# EAGLE library part BOTTOM-PADS-70 (library T2M_4_0)
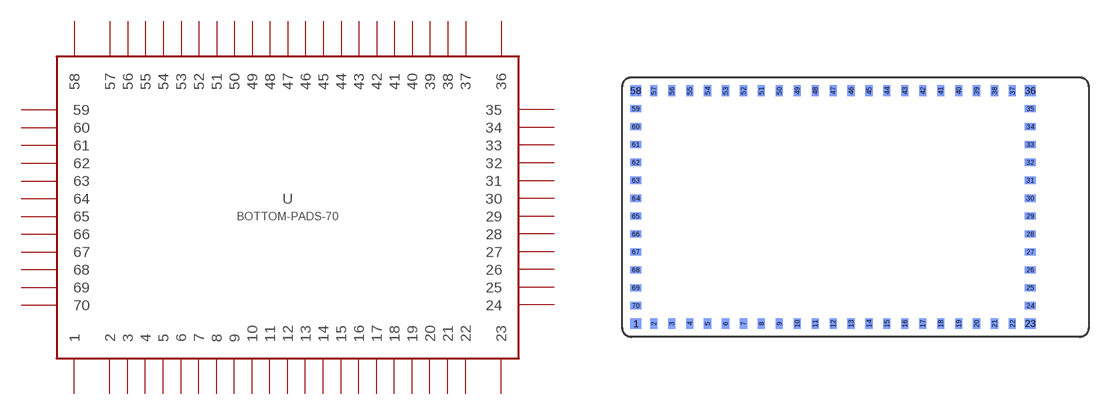
[diagram p3: symbol with the pads of BOTTOM-PADS-70; footprint BOTTOM-PADS-70]

Designator prefix -

## BOTTOM-PADS-70  [BOTTOM-PADS-70]
1  1
2  2
3  3
4  4
5  5
6  6
7  7
8  8
9  9
10  10
11  11
12  12
13  13
14  14
15  15
16  16
17  17
18  18
19  19
20  20
21  21
22  22
23  23
24  24
25  25
26  26
27  27
28  28
29  29
30  30
31  31
32  32
33  33
34  34
35  35
36  36
37  37
38  38
39  39
40  40
41  41
42  42
43  43
44  44
45  45
46  46
47  47
48  48
49  49
50  50
51  51
52  52
53  53
54  54
55  55
56  56
57  57
58  58
59  59
60  60
61  61
62  62
63  63
64  64
65  65
66  66
67  67
68  68
69  69
70  70

## Footprint BOTTOM-PADS-70 (pad centres in mm)
smd 0.6 x 0.6 bottom: 1 0.75,0.75; 23 22.75,0.75; 36 22.75,13.75; 58 0.75,13.75
smd 0.4 x 0.6 bottom: 2 1.75,0.75; 3 2.75,0.75; 4 3.75,0.75; 5 4.75,0.75; 6 5.75,0.75; 7 6.75,0.75; 8 7.75,0.75; 9 8.75,0.75; 10 9.75,0.75; 11 10.75,0.75; 12 11.75,0.75; 13 12.75,0.75; 14 13.75,0.75; 15 14.75,0.75; 16 15.75,0.75; 17 16.75,0.75; 18 17.75,0.75; 19 18.75,0.75; 20 19.75,0.75; 21 20.75,0.75; 22 21.75,0.75; 37 21.75,13.75; 38 20.75,13.75; 39 19.75,13.75; 40 18.75,13.75; 41 17.75,13.75; 42 16.75,13.75; 43 15.75,13.75; 44 14.75,13.75; 45 13.75,13.75; 46 12.75,13.75; 47 11.75,13.75; 48 10.75,13.75; 49 9.75,13.75; 50 8.75,13.75; 51 7.75,13.75; 52 6.75,13.75; 53 5.75,13.75; 54 4.75,13.75; 55 3.75,13.75; 56 2.75,13.75; 57 1.75,13.75
smd 0.6 x 0.4 bottom: 24 22.75,1.75; 25 22.75,2.75; 26 22.75,3.75; 27 22.75,4.75; 28 22.75,5.75; 29 22.75,6.75; 30 22.75,7.75; 31 22.75,8.75; 32 22.75,9.75; 33 22.75,10.75; 34 22.75,11.75; 35 22.75,12.75; 59 0.75,12.75; 60 0.75,11.75; 61 0.75,10.75; 62 0.75,9.75; 63 0.75,8.75; 64 0.75,7.75; 65 0.75,6.75; 66 0.75,5.75; 67 0.75,4.75; 68 0.75,3.75; 69 0.75,2.75; 70 0.75,1.75